# Altium footprint library custom-case.PcbLib: 168 footprints (part 7 of 11)
Each footprint in its own frame and in the unit in brackets; x right, y up, seen from the top. Pads: shape width x height; smd on the part's side, far side on the other; paste and mask are expansions set on the pad; w line width, h text height; cw(c..) or ccw(c..) is an arc to the next point about the centre after c.
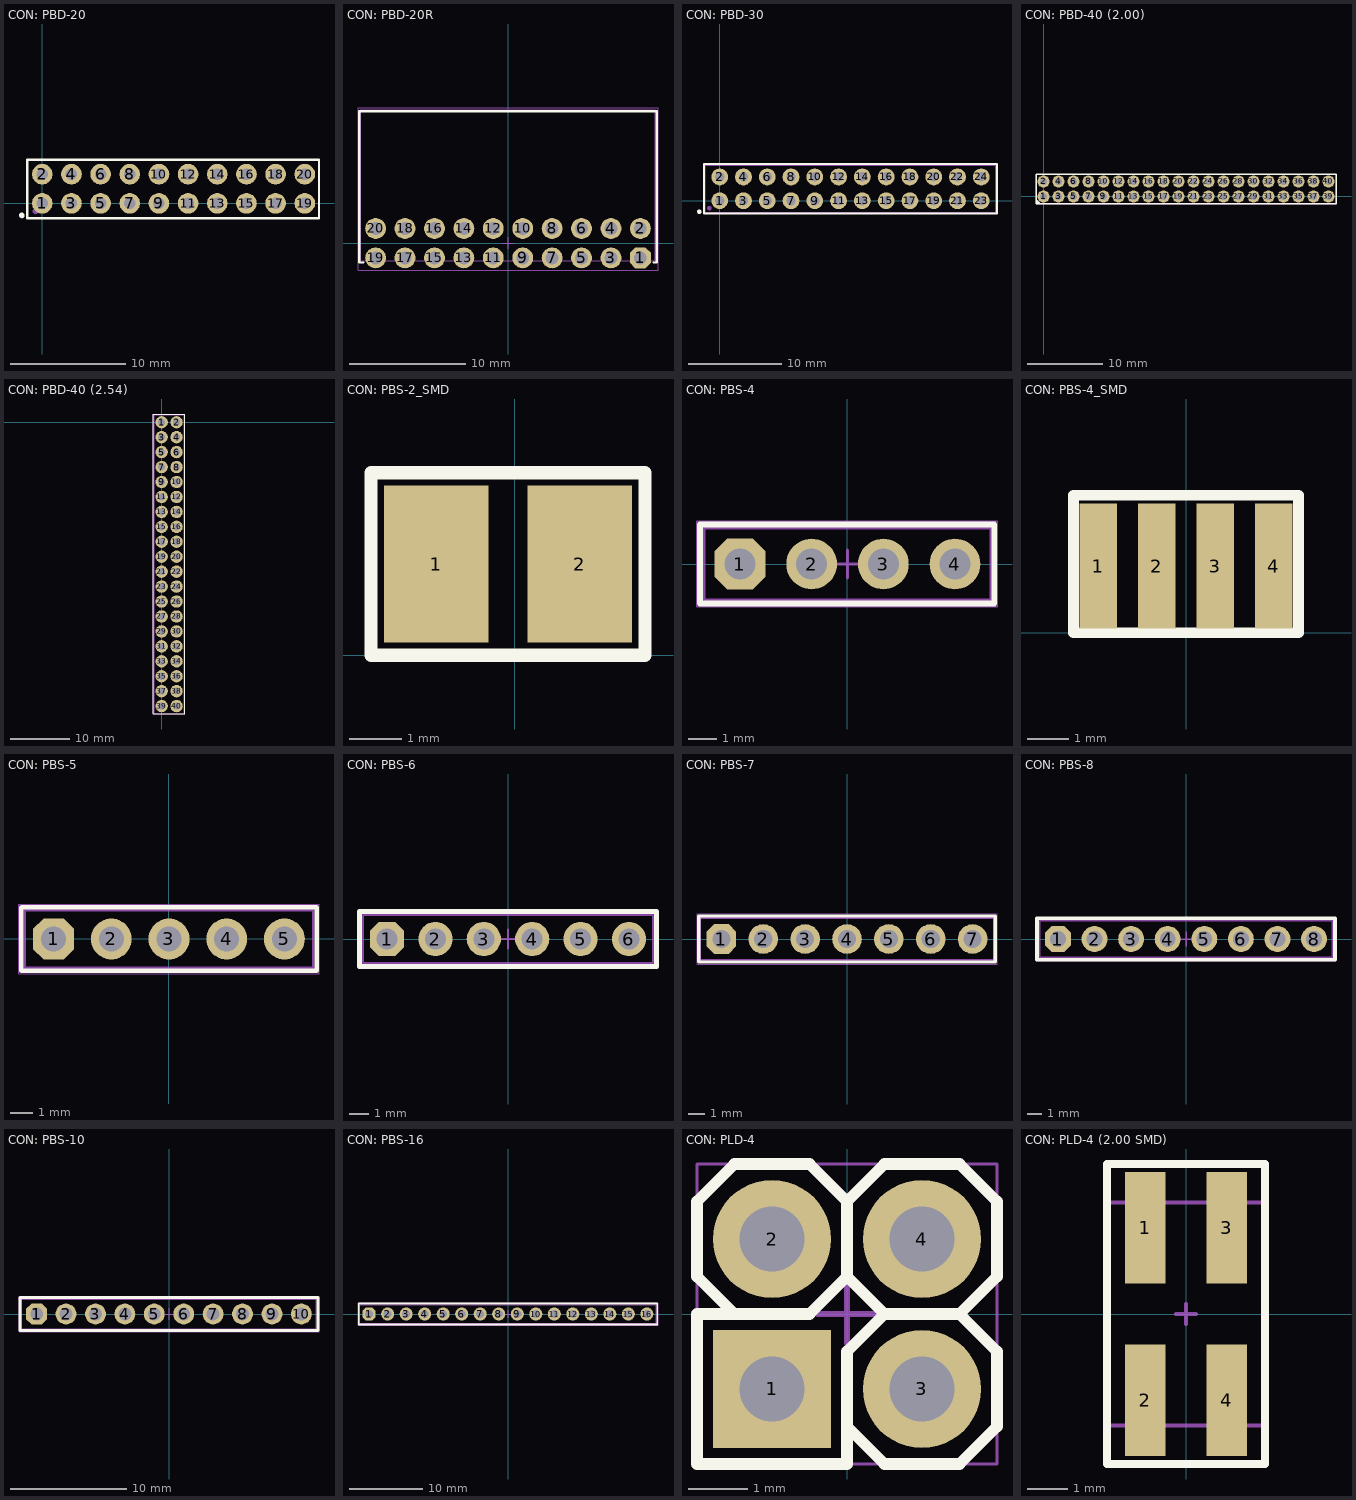
[diagram p6: the footprints below, top view; thin cyan lines are the x and y axes]

## CON: PBD-20 [mm]
pads (22):
  round 1.8 hole 1: 1(0,0) 2(0,2.54) 3(2.54,0) 4(2.54,2.54) 5(5.08,0) 6(5.08,2.54) 7(7.62,0) 8(7.62,2.54) 9(10.16,0) 10(10.16,2.54) 11(12.7,0) 12(12.7,2.54) 13(15.24,0) 14(15.24,2.54) 15(17.78,0) 16(17.78,2.54) 17(20.32,0) 18(20.32,2.54) 19(22.86,0) 20(22.86,2.54)
  round 0.5 on Top Overlay: ""(-1.775,-1.05)
  round 0.5 on Mech1: ""(-0.6,-0.7)
Top Overlay:
  lines w0.2: -1.3,-1.3 24.1,-1.3 24.1,3.8 -1.3,3.8 -1.3,-1.3
Top Assy:
  lines w0.1: -1.3,-1.3 -1.3,3.78 24.1,3.78 24.1,-1.3 -1.3,-1.3
Size Area:
  lines w0.1: -1.3,-1.3 -1.3,3.8 24.1,3.8 24.1,-1.3 -1.3,-1.3
3D body "User Library-PBD2_54-20.STEP": height 8.4, standoff -2.7, extent -1.3,-1.3 24.1,3.78

## CON: PBD-20R [mm] "PBD-20R"
height 10
pads (20):
  oct 1.8x1.8 hole 1.1: 1(11.43,-1.27)
  round 1.8 hole 1.1: 2(11.43,1.27) 3(8.89,-1.27) 4(8.89,1.27) 5(6.35,-1.27) 6(6.35,1.27) 7(3.81,-1.27) 8(3.81,1.27) 9(1.27,-1.27) 10(1.27,1.27) 11(-1.27,-1.27) 12(-1.27,1.27) 13(-3.81,-1.27) 14(-3.81,1.27) 15(-6.35,-1.27) 16(-6.35,1.27) 17(-8.89,-1.27) 18(-8.89,1.27) 19(-11.43,-1.27) 20(-11.43,1.27)
Top Overlay:
  lines w0.2: -12.5,-1.675 -12.85,-1.675 -12.85,11.4 12.85,11.4 12.85,-1.675 12.575,-1.675
Top Assy:
  lines w0.1: -12.7,-1.525 -12.7,11.506 12.7,11.506 12.7,-1.525 -12.7,-1.525
Size Area:
  lines w0.05: -12.954,-2.325 12.954,-2.325 12.954,11.684 -12.954,11.684 -12.954,-2.325
  lines w0.1: -0.5,0 0.5,0 ; 0,-0.5 0,0.5
3D body "PBD-20R.STEP": height 5, standoff -3, extent -12.7,-1.524 12.7,11.496

## CON: PBD-30 [mm]
pads (26):
  round 1.8 hole 1: 1(0,0) 2(0,2.54) 3(2.54,0) 4(2.54,2.54) 5(5.08,0) 6(5.08,2.54) 7(7.62,0) 8(7.62,2.54) 9(10.16,0) 10(10.16,2.54) 11(12.7,0) 12(12.7,2.54) 13(15.24,0) 14(15.24,2.54) 15(17.78,0) 16(17.78,2.54) 17(20.32,0) 18(20.32,2.54) 19(22.86,0) 20(22.86,2.54) 21(25.4,0) 22(25.4,2.54) 23(27.94,0) 24(27.94,2.54)
  round 0.5 on Top Overlay: ""(-2.175,-1.175)
  round 0.5 on Mech1: ""(-1.1,-0.8)
Top Overlay:
  lines w0.2: -1.675,-1.375 29.625,-1.375 29.625,3.925 -1.675,3.925 -1.675,-1.375
Top Assy:
  lines w0.1: -1.525,-1.225 -1.525,3.775 -1.5,3.775 29.475,3.775 29.475,-1.225 -1.525,-1.225
Size Area:
  lines w0.1: -1.625,-1.325 -1.625,3.875 29.575,3.875 29.575,-1.325 -1.625,-1.325
3D body "PBD-24.STEP": height 8.55, standoff 0.05, extent -1.525,-1.225 29.475,3.775

## CON: PBD-40 (2.00) [mm]
pads (40):
  round 1.6 hole 0.9: 1(0,0) 2(0,2) 3(2,0) 4(2,2) 5(4,0) 6(4,2) 7(6,0) 8(6,2) 9(8,0) 10(8,2) 11(10,0) 12(10,2) 13(12,0) 14(12,2) 15(14,0) 16(14,2) 17(16,0) 18(16,2) 19(18,0) 20(18,2) 21(20,0) 22(20,2) 23(22,0) 24(22,2) 25(24,0) 26(24,2) 27(26,0) 28(26,2) 29(28,0) 30(28,2) 31(30,0) 32(30,2) 33(32,0) 34(32,2) 35(34,0) 36(34,2) 37(36,0) 38(36,2) 39(38,0) 40(38,2)
Top Overlay:
  region: -0.4,-1 -1,-0.4 -1,-1
  lines w0.2: -1,-1 -1,3 39,3 39,-1 -1,-1
Top Assy:
  region: -0.4,-1 -1,-0.4 -1,-1
  lines w0.1: -1,-1 39,-1 39,3 -1,3 -1,-1
Size Area:
  lines w0.1: -1,-1 -1,3 39,3 39,-1 -1,-1
3D body "PBD2-40.STEP": height 4.4, standoff -2.6, extent -1,-1 39,3

## CON: PBD-40 (2.54) [mm]
pads (40):
  round 2.1 hole 1.2: 1(0,0) 2(2.54,0) 3(0,-2.54) 4(2.54,-2.54) 5(0,-5.08) 6(2.54,-5.08) 7(0,-7.62) 8(2.54,-7.62) 9(0,-10.16) 10(2.54,-10.16) 11(0,-12.7) 12(2.54,-12.7) 13(0,-15.24) 14(2.54,-15.24) 15(0,-17.78) 16(2.54,-17.78) 17(0,-20.32) 18(2.54,-20.32) 19(0,-22.86) 20(2.54,-22.86) 21(0,-25.4) 22(2.54,-25.4) 23(0,-27.94) 24(2.54,-27.94) 25(0,-30.48) 26(2.54,-30.48) 27(0,-33.02) 28(2.54,-33.02) 29(0,-35.56) 30(2.54,-35.56) 31(0,-38.1) 32(2.54,-38.1) 33(0,-40.64) 34(2.54,-40.64) 35(0,-43.18) 36(2.54,-43.18) 37(0,-45.72) 38(2.54,-45.72) 39(0,-48.26) 40(2.54,-48.26)
Top Overlay:
  lines w0.2: -1.4,-49.6 3.9,-49.6 3.9,1.4 -1.4,1.4 -1.4,-49.6
Top Assy:
  lines w0.1: -1.27,-49.53 3.81,-49.53 3.81,1.27 -1.27,1.27 -1.27,-49.53
Size Area:
  lines w0.1: -1.4,-49.6 -1.4,1.4 3.9,1.4 3.9,-49.6 -1.4,-49.6
3D body "User Library-PBD2_54-40.STEP": height 8.4, standoff -2.7, extent -1.27,-49.53 3.81,1.27

## CON: PBS-2_SMD [mm] "PBS-5"
height 10
pads (2):
  rect 2x3 smd: 1(-1.5,1.75) 2(1.25,1.75)
Top Overlay:
  lines w0.254: -2.75,0 -2.75,3.5 2.5,3.5 2.5,0 -2.75,0

## CON: PBS-4 [mm] "PBS-5"
height 10
pads (4):
  oct 1.8x1.8 hole 1.1: 1(-3.81,0)
  round 1.8 hole 1.1: 2(-1.27,0) 3(1.27,0) 4(3.81,0)
Top Overlay:
  lines w0.2: -5.23,-1.4 -5.23,1.4 5.2,1.4 5.2,-1.4 -5.23,-1.4
Top Assy:
  lines w0.1: -5.08,-1.27 -5.08,1.27 5.08,1.27 5.08,-1.27 -5.08,-1.27
Size Area:
  lines w0.05: -5.334,-1.524 5.3,-1.524 5.3,1.524 -5.334,1.524 -5.334,-1.524
  lines w0.1: -0.5,0 0.5,0 ; 0,-0.5 0,0.5 ; 0.77,0 1.77,0 ; 1.27,-0.5 1.27,0.5
3D body "PBS-04.STEP": height 8.4, standoff -3.2, extent -5.08,-1.27 5.08,1.27

## CON: PBS-4_SMD [mm] "PBS-5"
height 10
pads (4):
  rect 0.9x3 smd: 1(-2.1,1.6) 2(-0.7,1.6) 3(0.7,1.6) 4(2.1,1.6)
Top Overlay:
  lines w0.254: -2.7,0 2.7,0 2.7,3.3 -2.7,3.3 -2.7,0

## CON: PBS-5 [mm] "PBS-5"
height 10
pads (5):
  oct 1.8x1.8 hole 1.1: 1(-5.08,0)
  round 1.8 hole 1.1: 2(-2.54,0) 3(0,0) 4(2.54,0) 5(5.08,0)
Top Overlay:
  lines w0.2: -6.5,-1.4 -6.5,1.4 6.5,1.4 6.5,-1.4 -6.5,-1.4
Top Assy:
  lines w0.1: -6.35,-1.27 6.35,-1.27 6.35,1.27 -6.35,1.27 -6.35,-1.27
Size Area:
  lines w0.05: -6.604,-1.524 6.604,-1.524 6.604,1.524 -6.604,1.524 -6.604,-1.524
  lines w0.1: -0.5,0 0.5,0 -0.5,0 ; 0,-0.5 0,0.5 0,-0.5
3D body "PBS-05.STEP": height 8.43, standoff -3.17, extent -6.35,-1.27 6.35,1.27

## CON: PBS-6 [mm] "PBS-6"
height 10
pads (6):
  oct 1.8x1.8 hole 1.1: 1(-6.35,0)
  round 1.8 hole 1.1: 2(-3.81,0) 3(-1.27,0) 4(1.27,0) 5(3.81,0) 6(6.35,0)
Top Overlay:
  lines w0.254: -7.8,-1.45 7.8,-1.45 7.8,1.45 -7.8,1.45 -7.8,-1.45
Top Assy:
  lines w0.1: -7.62,-1.27 -7.62,1.27 7.62,1.27 7.62,-1.27 -7.62,-1.27
Size Area:
  lines w0.05: -7.874,-1.524 -7.874,1.524 7.874,1.524 7.874,-1.524 -7.874,-1.524
  lines w0.1: -0.5,0 0.5,0 ; 0,-0.5 0,0.5
3D body "User Library-PBS-06.STEP": height 8.4, standoff -3.2, extent -7.62,-1.27 7.62,1.27

## CON: PBS-7 [mm] "PBS-5"
height 10
pads (7):
  oct 1.8x1.8 hole 1.1: 1(-7.62,0)
  round 1.8 hole 1.1: 2(-5.08,0) 3(-2.54,0) 4(0,0) 5(2.54,0) 6(5.08,0) 7(7.62,0)
Top Overlay:
  lines w0.2: -9,-1.4 9,-1.4 9,1.4 -9,1.4 -9,-1.4
Top Assy:
  lines w0.1: -8.9,-1.27 -8.9,1.27 8.9,1.27 8.9,-1.27 -8.9,-1.27
Size Area:
  lines w0.05: -9.1,-1.524 -9.1,1.524 9.1,1.524 9.1,-1.524 -9.1,-1.524
  lines w0.1: -3.04,0 -2.04,0 ; -2.54,-0.5 -2.54,0.5 ; -0.5,0 0.5,0 ; 0,-0.5 0,0.5
3D body "PBS-07.STEP": height 8.4, standoff -3.2, extent -8.89,-1.27 8.89,1.27

## CON: PBS-8 [mm] "PBS-8"
height 10
pads (8):
  oct 1.8x1.8 hole 1.1: 1(-8.89,0)
  round 1.8 hole 1.1: 2(-6.35,0) 3(-3.81,0) 4(-1.27,0) 5(1.27,0) 6(3.81,0) 7(6.35,0) 8(8.89,0)
Top Overlay:
  lines w0.254: -10.35,-1.45 10.35,-1.45 10.35,1.45 -10.35,1.45 -10.35,-1.45
Top Assy:
  lines w0.1: -10.16,-1.27 10.16,-1.27 10.16,1.27 -10.16,1.27 -10.16,-1.27
Size Area:
  lines w0.05: -10.414,-1.524 -10.414,1.524 10.414,1.524 10.414,-1.524 -10.414,-1.524
  lines w0.1: -0.5,0 0.5,0 ; 0,-0.5 0,0.5
3D body "User Library-PBS-08.STEP": height 8.4, standoff -3.2, extent -10.16,-1.27 10.16,1.27

## CON: PBS-10 [mm] "PBS-10"
height 8.5
pads (10):
  oct 1.8x1.8 hole 1.1: 1(-11.43,0)
  round 1.8 hole 1.1: 2(-8.89,0) 3(-6.35,0) 4(-3.81,0) 5(-1.27,0) 6(1.27,0) 7(3.81,0) 8(6.35,0) 9(8.89,0) 10(11.43,0)
Top Overlay:
  lines w0.254: -12.875,-1.425 -12.875,1.425 12.875,1.425 12.875,-1.425 -12.875,-1.425
Top Assy:
  lines w0.1: -12.7,-1.27 12.7,-1.27 12.7,1.27 -12.7,1.27 -12.7,-1.27
Size Area:
  lines w0.05: -12.954,-1.524 -12.954,1.524 12.954,1.524 12.954,-1.524 -12.954,-1.524
  lines w0.1: -0.5,0 0.5,0 ; 0,-0.5 0,0.5
3D body "User Library-PBS-10.STEP": height 8.4, standoff -3.2, extent -12.7,-1.27 12.7,1.27

## CON: PBS-16 [mm] "PBS-16"
height 10
pads (16):
  oct 1.8x1.8 hole 1.1: 1(-19.05,0)
  round 1.8 hole 1.1: 2(-16.51,0) 3(-13.97,0) 4(-11.43,0) 5(-8.89,0) 6(-6.35,0) 7(-3.81,0) 8(-1.27,0) 9(1.27,0) 10(3.81,0) 11(6.35,0) 12(8.89,0) 13(11.43,0) 14(13.97,0) 15(16.51,0) 16(19.05,0)
Top Overlay:
  lines w0.254: -20.475,-1.425 -20.475,1.425 20.475,1.425 20.475,-1.425 -20.475,-1.425
Top Assy:
  lines w0.1: -20.32,-1.27 20.32,-1.27 20.32,1.27 -20.32,1.27 -20.32,-1.27
Size Area:
  lines w0.05: -20.574,-1.524 -20.574,1.524 20.574,1.524 20.574,-1.524 -20.574,-1.524
  lines w0.1: -0.5,0 0.5,0 ; 0,-0.5 0,0.5
3D body "User Library-pbs-16.STEP": height 8.27, standoff -2.73, extent -20.32,-1.27 20.32,1.27

## CON: PLD-4 [mm]
height 10
pads (4):
  rect 2x2 hole 1.1: 1(-1.27,-1.27)
  round 2 hole 1.1: 2(-1.27,1.27) 3(1.27,-1.27) 4(1.27,1.27)
Top Overlay:
  lines w0.2: -1.905,0 -2.54,0.635 -2.54,1.905 -1.905,2.54 ; 0,-1.905 0.635,-2.54 1.905,-2.54 2.54,-1.905 2.54,-0.635 1.905,0 ; -1.905,2.54 -0.635,2.54 ; -1.905,2.54 -0.635,2.54 ; -1.905,2.54 -0.635,2.54 ; -0.635,2.54 0,1.905 ; 0,0.635 -0.635,0 -2.54,0 -2.54,-2.54 0,-2.54 0,-0.635 0.635,0 ; 0,0.635 0,1.905 ; 0,0.635 0.635,0 ; 0,1.905 0.635,2.54 ; 0.635,0 1.905,0 ; 0.635,2.54 1.905,2.54 ; 0.635,2.54 1.905,2.54 ; 1.905,0 2.54,0.635 2.54,1.905 1.905,2.54
Top Assy:
  lines w0.1: -1.905,0 -2.54,0.635 -2.54,1.905 -1.905,2.54 -0.635,2.54 0,1.905 0.635,2.54 1.905,2.54 2.54,1.905 2.54,0.635 1.905,0 ; 0,-1.905 0.635,-2.54 1.905,-2.54 2.54,-1.905 2.54,-0.635 1.905,0 ; 0.635,0 1.905,0 ; 0.635,0 0,0.635 -0.635,0 -2.54,0 -2.54,-2.54 0,-2.54 0,-0.635 0.635,0
Size Area:
  lines w0.05: -2.54,-2.54 2.54,-2.54 2.54,2.54 -2.54,2.54 -2.54,-2.54
  lines w0.1: -0.5,0 0.5,0 ; 0,-0.5 0,0.5
3D body "PLD-4.STEP": height 8.54, standoff -3, extent -2.592,-2.546 2.488,2.534

## CON: PLD-4 (2.00 SMD) [mm]
pads (4):
  rect 1x2.75 smd: 1(-1,2.125) 2(-1,-2.125) 3(1,2.125) 4(1,-2.125)
Top Overlay:
  lines w0.2: -1.95,-3.7 -1.95,3.7 1.95,3.7 1.95,-3.7 -1.95,-3.7
Top Assy:
  lines w0.1: -1.95,-2.75 -1.95,2.75 1.95,2.75 1.95,-2.75 -1.95,-2.75
Size Area:
  lines w0.1: -0.25,0 0.25,0 ; 0,-0.25 0,0.25 ; -1.95,-3.7 1.95,-3.7 1.95,3.7 -1.95,3.7 -1.95,-3.7
3D body "877590464-1.STEP": height 6.5, standoff 0, extent -1.95,-2.75 1.95,2.75